# EAGLE library part FT230X (library ICs)
FTDI FT230XS USB Interface, Transceiver, USB 2.0, 2.97 V, 5.5 V, SSOP, 16
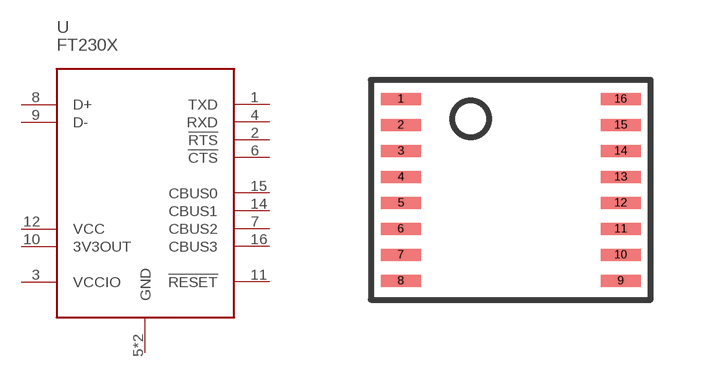
[diagram p70: symbol with the pads of SSOP16-4MM; footprint SSOP16-4MM]

Designator prefix U

## FT230XS (DIGIKEY: 768-1135-1-ND; HEIGHT: 1.5; PRICE_PER: 1.65; VALUE: FT230X)  [SSOP16-4MM]
1  TXD
2  !RTS
3  VCCIO
4  RXD
5  GND
6  !CTS
7  CBUS2
8  D+
9  D-
10  3V3OUT
11  !RESET
12  VCC
13  GND
14  CBUS1
15  CBUS0
16  CBUS3

## Footprint SSOP16-4MM (pad centres in mm)
smd 1 x 0.3: 1 -2.75,2.275; 2 -2.75,1.625; 3 -2.75,0.975; 4 -2.75,0.325; 5 -2.75,-0.325; 6 -2.75,-0.975; 7 -2.75,-1.625; 8 -2.75,-2.275; 9 2.75,-2.275; 10 2.75,-1.625; 11 2.75,-0.975; 12 2.75,-0.325; 13 2.75,0.325; 14 2.75,0.975; 15 2.75,1.625; 16 2.75,2.275